# Altium schematic symbol library sch_lib.SchLib: 2 symbols
Pins are listed as number, name and electrical type; pins without a type are passive.

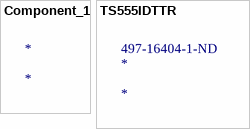
[diagram p0: symbols Component_1 to TS555IDTTR]

## Component_1
designator *

## TS555IDTTR
designator *  Supplier Part Number 1: 497-16404-1-ND
IC OSC SINGLE TIMER 2.7MHZ 8SOIC; Manufacturer: STMicroelectronics; Manufacturer Part Number: TS555IDTTR; Operating Supply Current: 65uA; Number of Timers/Counters: 1; High Level Output Current: -10mA; Low Level Output Current: 50mA; Supplier 1: Digi-Key; RoHS: Yes; Stock 1: 10; Pricing 1: 1 = 1.12000, 10 = 0.99900, 100 = 0.77920, 500 = 0.64366, 1000 = 0.50816 (USD); Mount: Surface Mount; Case/Package: SO; Number of Pins: 8; Min Operating Temperature: -40°C; Max Operating Temperature: 125°C; Packaging: Tape and Reel; Frequency: 2.7MHz; ComponentLink1URL: http://www.st.com/content/ccc/resource/technical/document/datasheet/45/d5/c6/11/46/d3/4b/a3/CD00000893.pdf/files/CD00000893.pdf/jcr:content/translations/en.CD00000893.pdf?src-supplier=Digi-Key; ComponentLink1Description: http://www.st.com/content/ccc/resource/technical/document/datasheet/45/d5/c6/11/46/d3/4b/a3/CD00000893.pdf/files/CD00000893.pdf/jcr:content/translations/en.CD00000893.pdf?src-supplier=Digi-Key; ComponentLink2URL: http://www.st.com/st-web-ui/static/active/en/resource/technical/document/datasheet/CD00000893.pdf?src-supplier=Avnet; ComponentLink2Description: http://www.st.com/st-web-ui/static/active/en/resource/technical/document/datasheet/CD00000893.pdf?src-supplier=Avnet; ComponentLink3URL: http://www.st.com/st-web-ui/static/active/en/resource/technical/document/datasheet/CD00000893.pdf?src-supplier=Avnet+Asia; ComponentLink3Description: http://www.st.com/st-web-ui/static/active/en/resource/technical/document/datasheet/CD00000893.pdf?src-supplier=Avnet+Asia